# EAGLE library part TPS65950 (library GTA04b7)
Power Controller for OMAP Texas Instruments TPS65950
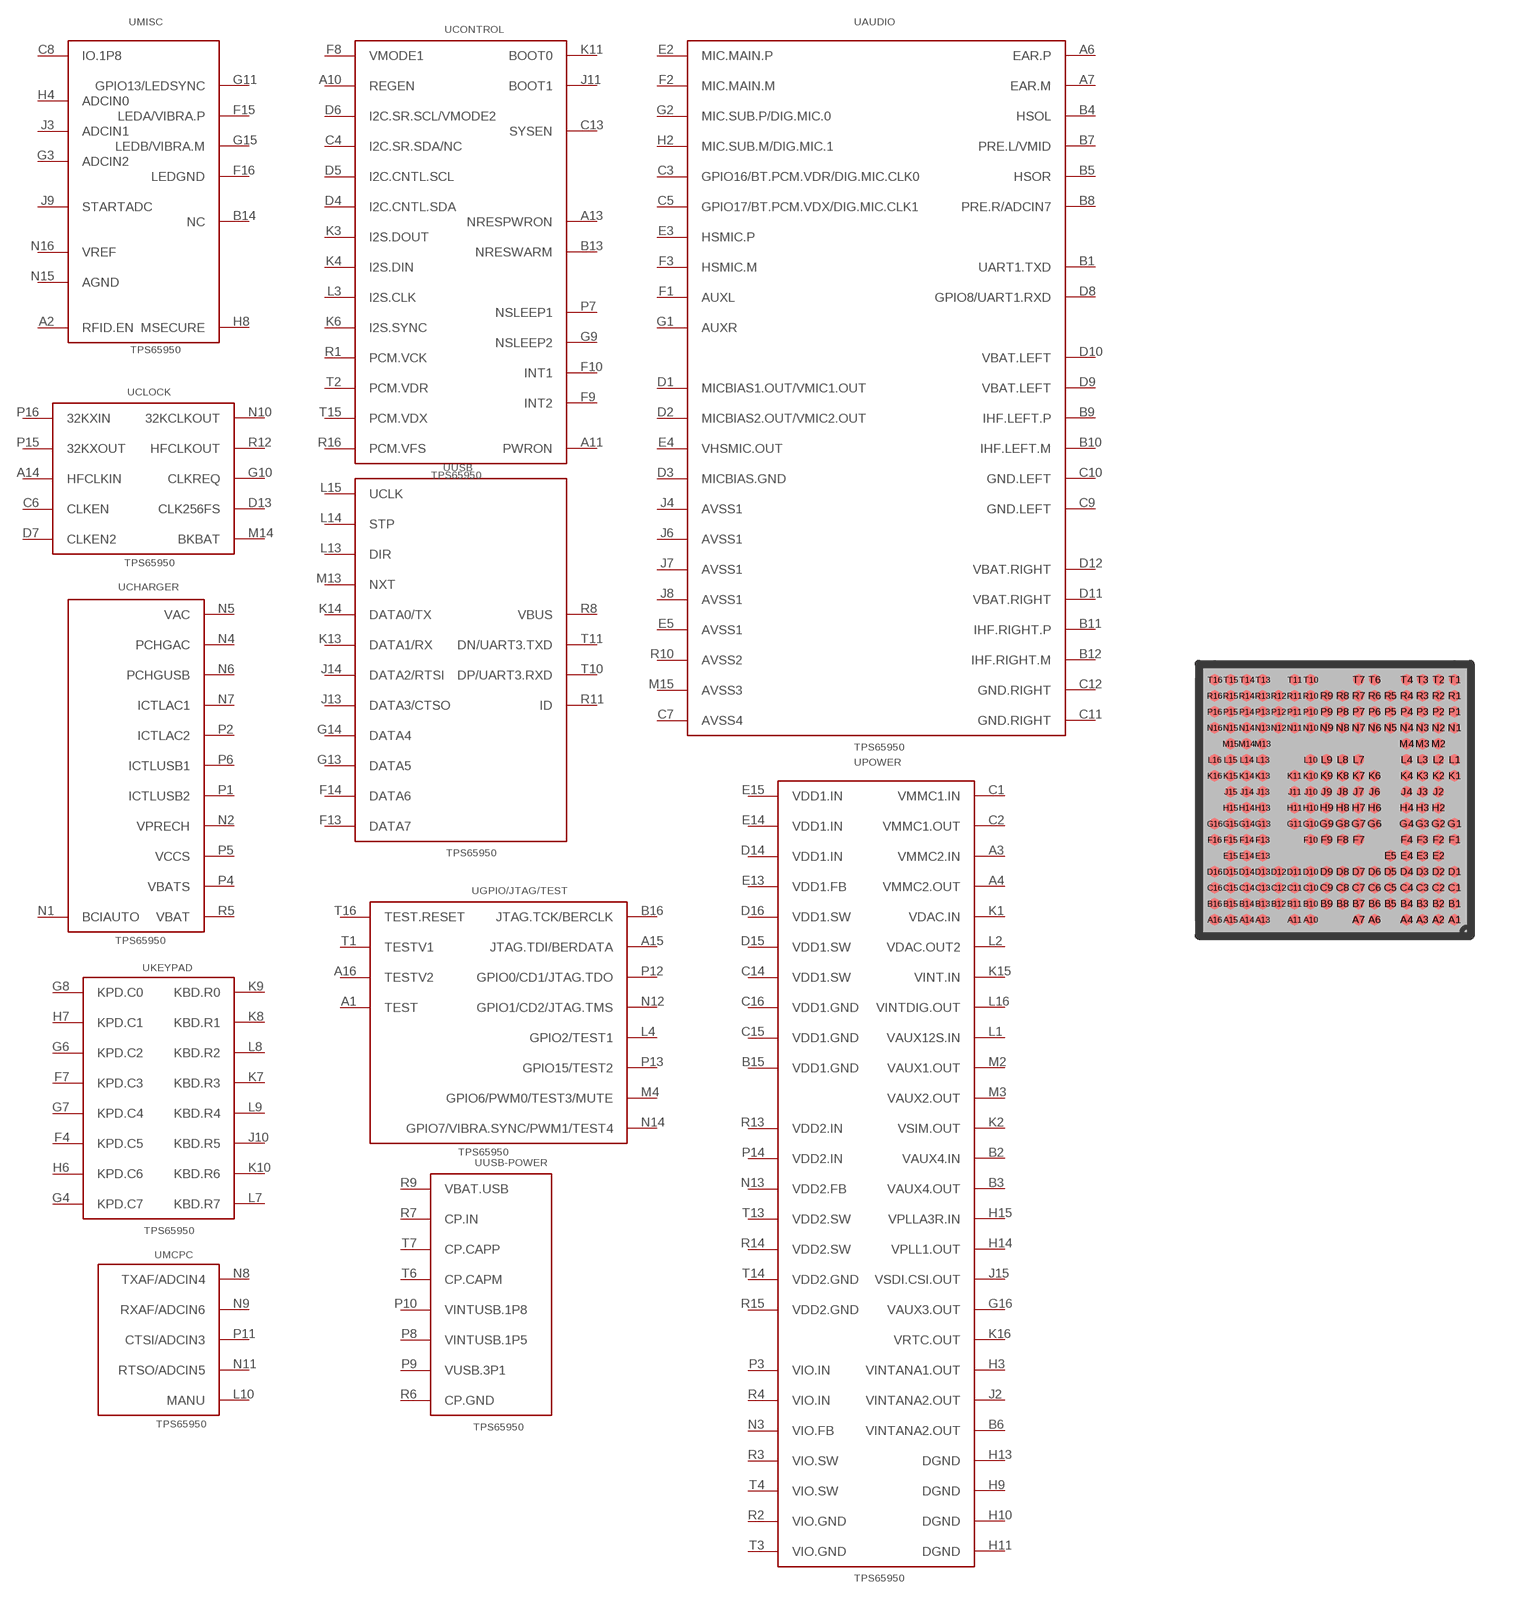
[diagram p48: symbol with the pads of PBGA256-N213-0.4; footprint PBGA256-N213-0.4]

Designator prefix -; gates AUDIO=TPS-AUDIO CHARGER=TPS-CHARGER CLOCK=TPS-CLOCK CONTROL=TPS-CONTROL GPIO/JTAG/TEST=TPS-GPIO/JTAG/TEST KEYPAD=TPS-KEYPAD MCPC=TPS-MCPC MISC=TPS-MISC POWER=TPS-POWER USB=TPS-USB USB-POWER=TPS-USB-POWER

## TPS65950 (MICRO-VIA-X: 1:B2,2:C2,1:F2,2:G2,1:K2,3:L2,2:N2,2:B3,1:D3,3:E3,4:F3,3:G3,3:H3,1:J3,3:K3,4:L3,3:M3,1:N3,1:R3,1:B4,3:C4,1:E5,1:P5,1:B6,2:P6,2:R6,1:C7,5:G7,3:H7,5:K7,3:P7,1:R7,1:C8,2:G8,4:H8,2:K8,3:P8,2:J9,3:K9,3:P9,1:B10,3:G10,4:J10,5:K10,3:P10,2:R10,1:B11,3:P11,2:R11,1:C12,1:B13,2:C13,3:P13,2:R13,1:C14,4:F14,4:G14,2:H14,2:J14,5:K14,4:L14,1:M14,2:N14,1:R14,1:D14,1:D15,2:F15,2:G15,1:K15,1:L15,2:P14,1:P15,1:R15,1:T10,2:T11,1:D12,1:K11,1:A3,1:C1,1:E15,1:H15,2:P2,4:E4,3:D4,2:H4,4:K4,3:N10,2:F10,3:P12,4:N12,3:K6,4:G4,2:N11,1:N9,2:N8,2:N4,3:N6,5:H6,4:F4,3:F7,2:G6,4:L7,5:L9,5:L8,1:G1,2:D6,1:D5,2:E2,4:L13,2:M13,3:K13,4:J13,4:G13,4:F13,5:N7,5:L4,3:N5,4:M4,2:M2,1:R8,3:N13,2:B9,1:A15,1:R12,1:B16,1:P1,1:B5)  [PBGA256-N213-0.4]
A1  GPIO/JTAG/TEST:TEST  in
A2  MISC:RFID.EN  out
A3  POWER:VMMC2.IN  pwr
A4  POWER:VMMC2.OUT  pwr
A6  AUDIO:EAR.P  out
A7  AUDIO:EAR.M  out
A10  CONTROL:REGEN
A11  CONTROL:PWRON
A13  CONTROL:NRESPWRON
A14  CLOCK:HFCLKIN  in
A15  GPIO/JTAG/TEST:JTAG.TDI/BERDATA  in
A16  GPIO/JTAG/TEST:TESTV2
B1  AUDIO:UART1.TXD  oc
B2  POWER:VAUX4.IN  pwr
B3  POWER:VAUX4.OUT  pwr
B4  AUDIO:HSOL  out
B5  AUDIO:HSOR  out
B6  POWER:VINTANA2.OUT  pwr
B7  AUDIO:PRE.L/VMID  out
B8  AUDIO:PRE.R/ADCIN7
B9  AUDIO:IHF.LEFT.P  out
B10  AUDIO:IHF.LEFT.M  out
B11  AUDIO:IHF.RIGHT.P  out
B12  AUDIO:IHF.RIGHT.M  out
B13  CONTROL:NRESWARM
B14  MISC:NC  nc
B15  POWER:VDD1.GND  pwr
B16  GPIO/JTAG/TEST:JTAG.TCK/BERCLK  in
C1  POWER:VMMC1.IN  pwr
C2  POWER:VMMC1.OUT  pwr
C3  AUDIO:GPIO16/BT.PCM.VDR/DIG.MIC.CLK0
C4  CONTROL:I2C.SR.SDA/NC
C5  AUDIO:GPIO17/BT.PCM.VDX/DIG.MIC.CLK1
C6  CLOCK:CLKEN  out
C7  AUDIO:AVSS4  pwr
C8  MISC:IO.1P8  pwr
C9  AUDIO:GND.LEFT  pwr
C10  AUDIO:GND.LEFT  pwr
C11  AUDIO:GND.RIGHT  pwr
C12  AUDIO:GND.RIGHT  pwr
C13  CONTROL:SYSEN
C14  POWER:VDD1.SW  pwr
C15  POWER:VDD1.GND  pwr
C16  POWER:VDD1.GND  pwr
D1  AUDIO:MICBIAS1.OUT/VMIC1.OUT  out
D2  AUDIO:MICBIAS2.OUT/VMIC2.OUT  out
D3  AUDIO:MICBIAS.GND  pwr
D4  CONTROL:I2C.CNTL.SDA
D5  CONTROL:I2C.CNTL.SCL
D6  CONTROL:I2C.SR.SCL/VMODE2
D7  CLOCK:CLKEN2  out
D8  AUDIO:GPIO8/UART1.RXD
D9  AUDIO:VBAT.LEFT  pwr
D10  AUDIO:VBAT.LEFT  pwr
D11  AUDIO:VBAT.RIGHT  pwr
D12  AUDIO:VBAT.RIGHT  pwr
D13  CLOCK:CLK256FS  out
D14  POWER:VDD1.IN  pwr
D15  POWER:VDD1.SW  pwr
D16  POWER:VDD1.SW  pwr
E2  AUDIO:MIC.MAIN.P  in
E3  AUDIO:HSMIC.P  in
E4  AUDIO:VHSMIC.OUT  out
E5  AUDIO:AVSS1  pwr
E13  POWER:VDD1.FB  pwr
E14  POWER:VDD1.IN  pwr
E15  POWER:VDD1.IN  pwr
F1  AUDIO:AUXL  in
F2  AUDIO:MIC.MAIN.M  in
F3  AUDIO:HSMIC.M  in
F4  KEYPAD:KPD.C5
F7  KEYPAD:KPD.C3
F8  CONTROL:VMODE1
F9  CONTROL:INT2
F10  CONTROL:INT1
F13  USB:DATA7
F14  USB:DATA6
F15  MISC:LEDA/VIBRA.P  oc
F16  MISC:LEDGND  pwr
G1  AUDIO:AUXR  in
G2  AUDIO:MIC.SUB.P/DIG.MIC.0  in
G3  MISC:ADCIN2  in
G4  KEYPAD:KPD.C7
G6  KEYPAD:KPD.C2
G7  KEYPAD:KPD.C4
G8  KEYPAD:KPD.C0
G9  CONTROL:NSLEEP2
G10  CLOCK:CLKREQ  in
G11  MISC:GPIO13/LEDSYNC
G13  USB:DATA5
G14  USB:DATA4
G15  MISC:LEDB/VIBRA.M  oc
G16  POWER:VAUX3.OUT  pwr
H2  AUDIO:MIC.SUB.M/DIG.MIC.1  in
H3  POWER:VINTANA1.OUT  pwr
H4  MISC:ADCIN0
H6  KEYPAD:KPD.C6
H7  KEYPAD:KPD.C1
H8  MISC:MSECURE  in
H9  POWER:DGND  pwr
H10  POWER:DGND  pwr
H11  POWER:DGND  pwr
H13  POWER:DGND  pwr
H14  POWER:VPLL1.OUT  pwr
H15  POWER:VPLLA3R.IN  pwr
J2  POWER:VINTANA2.OUT  pwr
J3  MISC:ADCIN1
J4  AUDIO:AVSS1  pwr
J6  AUDIO:AVSS1  pwr
J7  AUDIO:AVSS1  pwr
J8  AUDIO:AVSS1  pwr
J9  MISC:STARTADC  in
J10  KEYPAD:KBD.R5
J11  CONTROL:BOOT1
J13  USB:DATA3/CTSO
J14  USB:DATA2/RTSI
J15  POWER:VSDI.CSI.OUT  pwr
K1  POWER:VDAC.IN  pwr
K2  POWER:VSIM.OUT  pwr
K3  CONTROL:I2S.DOUT  out
K4  CONTROL:I2S.DIN  in
K6  CONTROL:I2S.SYNC
K7  KEYPAD:KBD.R3
K8  KEYPAD:KBD.R1
K9  KEYPAD:KBD.R0
K10  KEYPAD:KBD.R6
K11  CONTROL:BOOT0
K13  USB:DATA1/RX
K14  USB:DATA0/TX
K15  POWER:VINT.IN  pwr
K16  POWER:VRTC.OUT  pwr
L1  POWER:VAUX12S.IN  pwr
L2  POWER:VDAC.OUT2  pwr
L3  CONTROL:I2S.CLK
L4  GPIO/JTAG/TEST:GPIO2/TEST1
L7  KEYPAD:KBD.R7
L8  KEYPAD:KBD.R2
L9  KEYPAD:KBD.R4
L10  MCPC:MANU  in
L13  USB:DIR  out
L14  USB:STP  in
L15  USB:UCLK
L16  POWER:VINTDIG.OUT  pwr
M2  POWER:VAUX1.OUT  pwr
M3  POWER:VAUX2.OUT  pwr
M4  GPIO/JTAG/TEST:GPIO6/PWM0/TEST3/MUTE
M13  USB:NXT  out
M14  CLOCK:BKBAT  pwr
M15  AUDIO:AVSS3  pwr
N1  CHARGER:BCIAUTO  in
N2  CHARGER:VPRECH  out
N3  POWER:VIO.FB  pwr
N4  CHARGER:PCHGAC  in
N5  CHARGER:VAC  pwr
N6  CHARGER:PCHGUSB  in
N7  CHARGER:ICTLAC1  out
N8  MCPC:TXAF/ADCIN4  in
N9  MCPC:RXAF/ADCIN6  out
N10  CLOCK:32KCLKOUT  out
N11  MCPC:RTSO/ADCIN5  oc
N12  GPIO/JTAG/TEST:GPIO1/CD2/JTAG.TMS
N13  POWER:VDD2.FB  pwr
N14  GPIO/JTAG/TEST:GPIO7/VIBRA.SYNC/PWM1/TEST4
N15  MISC:AGND  pwr
N16  MISC:VREF  pwr
P1  CHARGER:ICTLUSB2  out
P2  CHARGER:ICTLAC2  out
P3  POWER:VIO.IN  pwr
P4  CHARGER:VBATS  in
P5  CHARGER:VCCS  in
P6  CHARGER:ICTLUSB1  out
P7  CONTROL:NSLEEP1
P8  USB-POWER:VINTUSB.1P5  pas
P9  USB-POWER:VUSB.3P1  pas
P10  USB-POWER:VINTUSB.1P8  pas
P11  MCPC:CTSI/ADCIN3
P12  GPIO/JTAG/TEST:GPIO0/CD1/JTAG.TDO
P13  GPIO/JTAG/TEST:GPIO15/TEST2
P14  POWER:VDD2.IN  pwr
P15  CLOCK:32KXOUT  out
P16  CLOCK:32KXIN  in
R1  CONTROL:PCM.VCK
R2  POWER:VIO.GND  pwr
R3  POWER:VIO.SW  pwr
R4  POWER:VIO.IN  pwr
R5  CHARGER:VBAT  pwr
R6  USB-POWER:CP.GND  pwr
R7  USB-POWER:CP.IN  pwr
R8  USB:VBUS  pwr
R9  USB-POWER:VBAT.USB  pwr
R10  AUDIO:AVSS2  pwr
R11  USB:ID  in
R12  CLOCK:HFCLKOUT  out
R13  POWER:VDD2.IN  pwr
R14  POWER:VDD2.SW  pwr
R15  POWER:VDD2.GND  pwr
R16  CONTROL:PCM.VFS
T1  GPIO/JTAG/TEST:TESTV1
T2  CONTROL:PCM.VDR
T3  POWER:VIO.GND  pwr
T4  POWER:VIO.SW  pwr
T6  USB-POWER:CP.CAPM  pas
T7  USB-POWER:CP.CAPP  pas
T10  USB:DP/UART3.RXD
T11  USB:DN/UART3.TXD
T13  POWER:VDD2.SW  pwr
T14  POWER:VDD2.GND  pwr
T15  CONTROL:PCM.VDX
T16  GPIO/JTAG/TEST:TEST.RESET  in

## Footprint PBGA256-N213-0.4 (pad centres in mm)
Ball Grid Array PBGA 256 - 0.4 pitch
smd 0.275 x 0.275: A1 3,-3; A2 2.6,-3; A3 2.2,-3; A4 1.8,-3; A6 1,-3; A7 0.6,-3; A10 -0.6,-3; A11 -1,-3; A13 -1.8,-3; A14 -2.2,-3; A15 -2.6,-3; A16 -3,-3; B1 3,-2.6; B2 2.6,-2.6; B3 2.2,-2.6; B4 1.8,-2.6; B5 1.4,-2.6; B6 1,-2.6; B7 0.6,-2.6; B8 0.2,-2.6; B9 -0.2,-2.6; B10 -0.6,-2.6; B11 -1,-2.6; B12 -1.4,-2.6; B13 -1.8,-2.6; B14 -2.2,-2.6; B15 -2.6,-2.6; B16 -3,-2.6; C1 3,-2.2; C2 2.6,-2.2; C3 2.2,-2.2; C4 1.8,-2.2; C5 1.4,-2.2; C6 1,-2.2; C7 0.6,-2.2; C8 0.2,-2.2; C9 -0.2,-2.2; C10 -0.6,-2.2; C11 -1,-2.2; C12 -1.4,-2.2; C13 -1.8,-2.2; C14 -2.2,-2.2; C15 -2.6,-2.2; C16 -3,-2.2; D1 3,-1.8; D2 2.6,-1.8; D3 2.2,-1.8; D4 1.8,-1.8; D5 1.4,-1.8; D6 1,-1.8; D7 0.6,-1.8; D8 0.2,-1.8; D9 -0.2,-1.8; D10 -0.6,-1.8; D11 -1,-1.8; D12 -1.4,-1.8; D13 -1.8,-1.8; D14 -2.2,-1.8; D15 -2.6,-1.8; D16 -3,-1.8; E2 2.6,-1.4; E3 2.2,-1.4; E4 1.8,-1.4; E5 1.4,-1.4; E13 -1.8,-1.4; E14 -2.2,-1.4; E15 -2.6,-1.4; F1 3,-1; F2 2.6,-1; F3 2.2,-1; F4 1.8,-1; F7 0.6,-1; F8 0.2,-1; F9 -0.2,-1; F10 -0.6,-1; F13 -1.8,-1; F14 -2.2,-1; F15 -2.6,-1; F16 -3,-1; G1 3,-0.6; G2 2.6,-0.6; G3 2.2,-0.6; G4 1.8,-0.6; G6 1,-0.6; G7 0.6,-0.6; G8 0.2,-0.6; G9 -0.2,-0.6; G10 -0.6,-0.6; G11 -1,-0.6; G13 -1.8,-0.6; G14 -2.2,-0.6; G15 -2.6,-0.6; G16 -3,-0.6; H2 2.6,-0.2; H3 2.2,-0.2; H4 1.8,-0.2; H6 1,-0.2; H7 0.6,-0.2; H8 0.2,-0.2; H9 -0.2,-0.2; H10 -0.6,-0.2; H11 -1,-0.2; H13 -1.8,-0.2; H14 -2.2,-0.2; H15 -2.6,-0.2; J2 2.6,0.2; J3 2.2,0.2; J4 1.8,0.2; J6 1,0.2; J7 0.6,0.2; J8 0.2,0.2; J9 -0.2,0.2; J10 -0.6,0.2; J11 -1,0.2; J13 -1.8,0.2; J14 -2.2,0.2; J15 -2.6,0.2; K1 3,0.6; K2 2.6,0.6; K3 2.2,0.6; K4 1.8,0.6; K6 1,0.6; K7 0.6,0.6; K8 0.2,0.6; K9 -0.2,0.6; K10 -0.6,0.6; K11 -1,0.6; K13 -1.8,0.6; K14 -2.2,0.6; K15 -2.6,0.6; K16 -3,0.6; L1 3,1; L2 2.6,1; L3 2.2,1; L4 1.8,1; L7 0.6,1; L8 0.2,1; L9 -0.2,1; L10 -0.6,1; L13 -1.8,1; L14 -2.2,1; L15 -2.6,1; L16 -3,1; M2 2.6,1.4; M3 2.2,1.4; M4 1.8,1.4; M13 -1.8,1.4; M14 -2.2,1.4; M15 -2.6,1.4; N1 3,1.8; N2 2.6,1.8; N3 2.2,1.8; N4 1.8,1.8; N5 1.4,1.8; N6 1,1.8; N7 0.6,1.8; N8 0.2,1.8; N9 -0.2,1.8; N10 -0.6,1.8; N11 -1,1.8; N12 -1.4,1.8; N13 -1.8,1.8; N14 -2.2,1.8; N15 -2.6,1.8; N16 -3,1.8; P1 3,2.2; P2 2.6,2.2; P3 2.2,2.2; P4 1.8,2.2; P5 1.4,2.2; P6 1,2.2; P7 0.6,2.2; P8 0.2,2.2; P9 -0.2,2.2; P10 -0.6,2.2; P11 -1,2.2; P12 -1.4,2.2; P13 -1.8,2.2; P14 -2.2,2.2; P15 -2.6,2.2; P16 -3,2.2; R1 3,2.6; R2 2.6,2.6; R3 2.2,2.6; R4 1.8,2.6; R5 1.4,2.6; R6 1,2.6; R7 0.6,2.6; R8 0.2,2.6; R9 -0.2,2.6; R10 -0.6,2.6; R11 -1,2.6; R12 -1.4,2.6; R13 -1.8,2.6; R14 -2.2,2.6; R15 -2.6,2.6; R16 -3,2.6; T1 3,3; T2 2.6,3; T3 2.2,3; T4 1.8,3; T6 1,3; T7 0.6,3; T10 -0.6,3; T11 -1,3; T13 -1.8,3; T14 -2.2,3; T15 -2.6,3; T16 -3,3